# Altium schematic symbol library Integrated Circuits.SchLib: 59 symbols
Pins are listed as number, name and electrical type; pins without a type are passive.

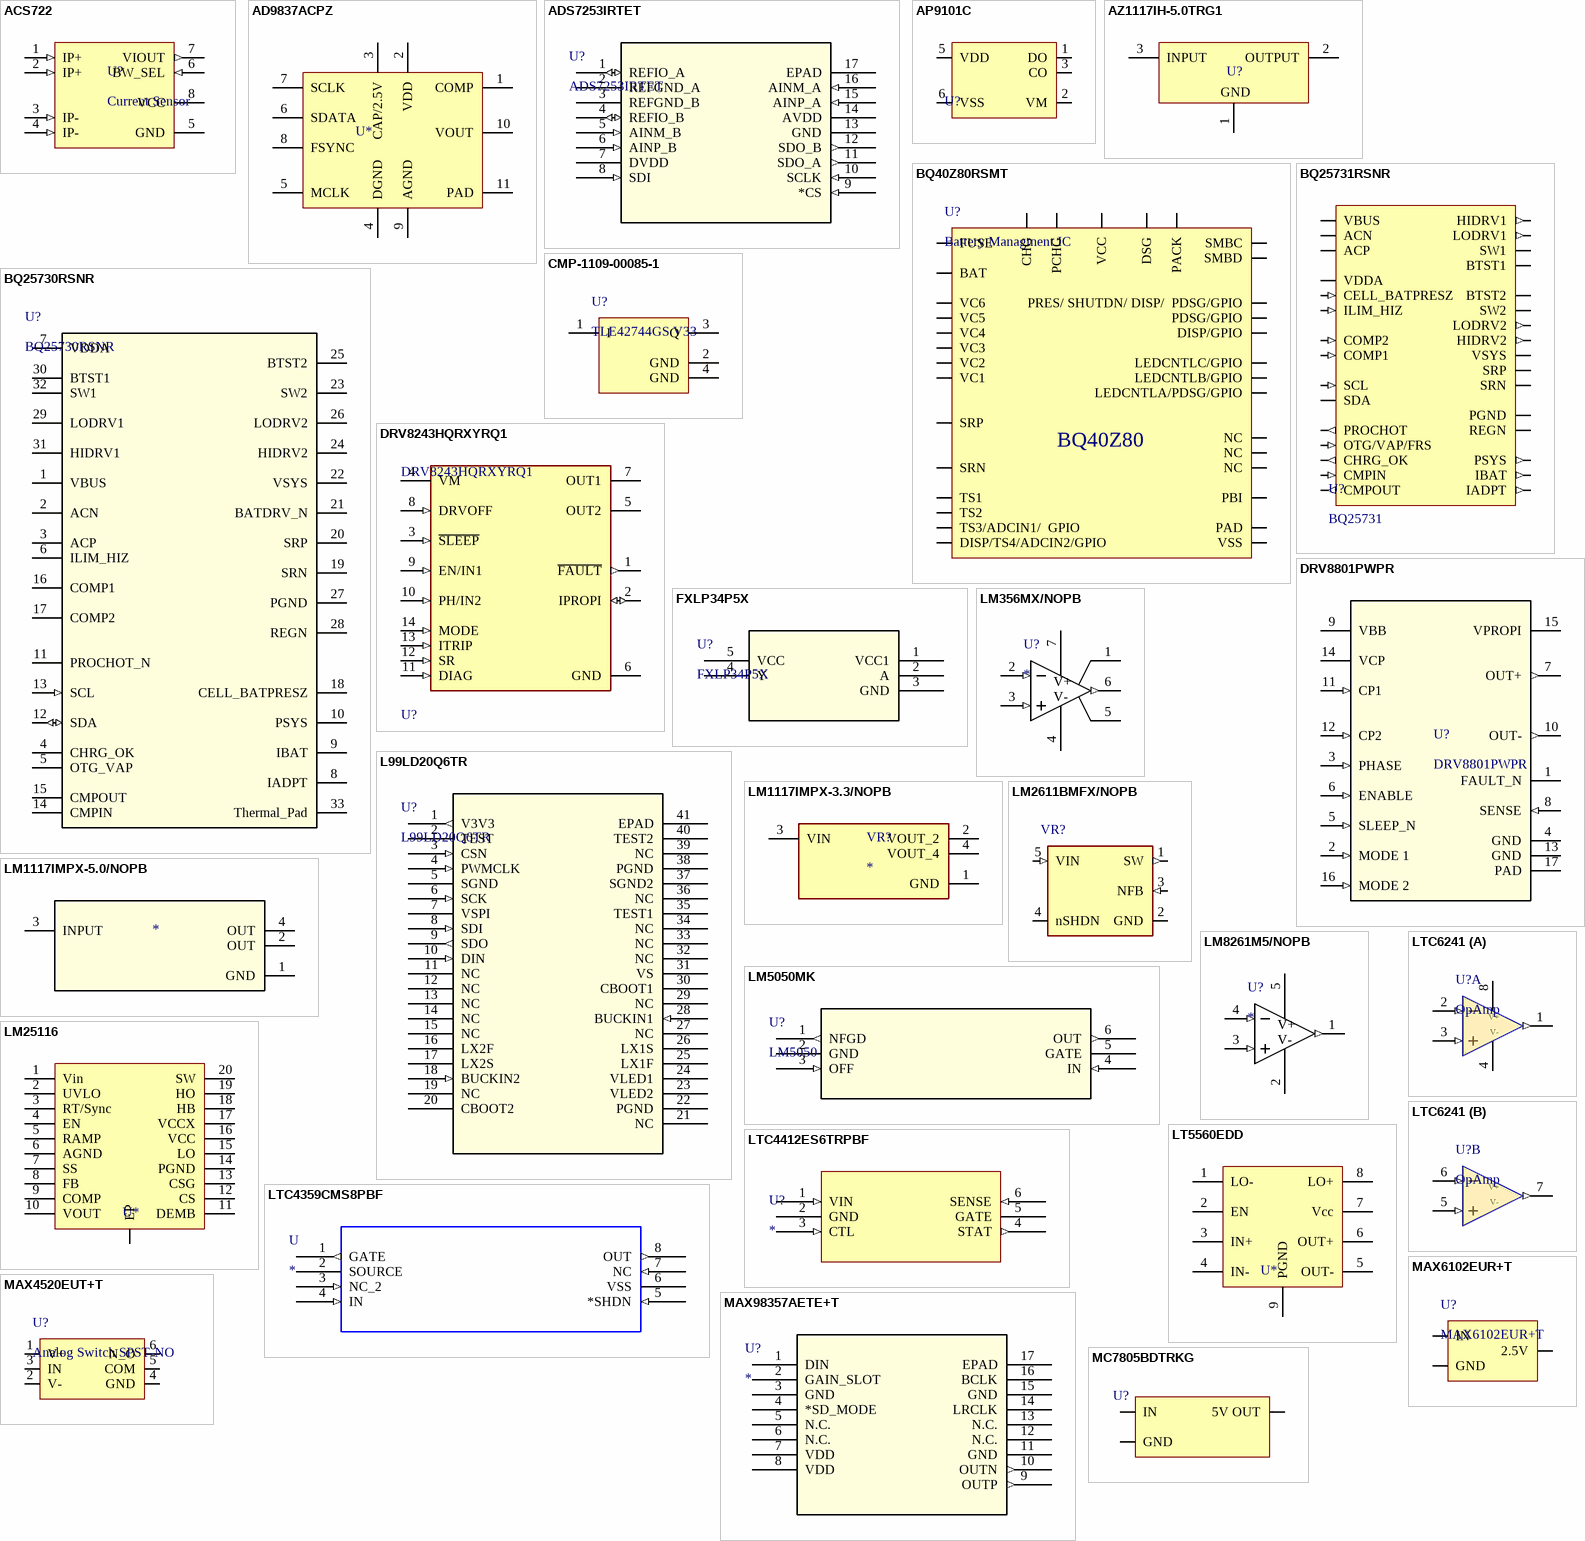
[diagram p0: symbols ACS722 to MC7805BDTRKG]

## ACS722
designator U?, comment Current Sensor
ACS722 10A DC; Manufacturer: Allegro MicroSystems; Supply Voltage: 3 - 3.6 V; ComponentLink1Description: Datasheet; ComponentLink1URL: https://www.allegromicro.com/~/media/Files/Datasheets/ACS722-Datasheet.ashx; Current Rating: 10 A; Supplier Part Number 1: 620-1636-6-ND; Supplier 1: Digi-Key; Created By: Nathan A; PartNumber: ACS722
footprint S8 (Linear Technologies S8)
pins: 1 IP+ (in), 2 IP+ (in), 3 IP- (in), 4 IP- (in), 5 GND, 6 BW_SEL (in), 7 VIOUT (out), 8 VCC
1 alternate drawing of the same symbol

## AD9837ACPZ
designator U*, comment IC DDS 5MHZ 10BIT 10LFCSP  (value not drawn)
Direct Digital Synthesis IC 10 b 5 MHz 28 b Tuning 10-LFCSP-WD (3x3)
footprint CP-10-9
pins: 1 COMP, 2 VDD, 3 CAP/2.5V, 4 DGND, 5 MCLK, 6 SDATA, 7 SCLK, 8 FSYNC, 9 AGND, 10 VOUT, 11 PAD

## ADS7253IRTET
designator U?
12 Bit, 1 MSPS, Dual, Simultaneous Sampling Single Ended / Pseudo-Differential SAR ADC 16-WQFN -40 to 125; Manufacturer: TI; Max Sampling: 1 MSpS; Supplier 1: DigiKey; Supplier Part Number 1: 296-38482-1-ND; Created By: John Ulm
footprint WQFN-16
pins: 1 REFIO_A (io), 2 REFGND_A (power), 3 REFGND_B (power), 4 REFIO_B (io), 5 AINM_B (in), 6 AINP_B (in), 7 DVDD (power), 8 SDI (in), 9 *CS (in), 10 SCLK (in), 11 SDO_A (out), 12 SDO_B (out), 13 GND (power), 14 AVDD (power), 15 AINP_A (in), 16 AINM_A (in), 17 EPAD

## AP9101C
designator U?, comment BATT PROT LI-ION 1CELL  (value not drawn)
Battery Battery Protection IC Lithium Ion/Polymer SOT-26; Made By: Robert Pafford; Supplier 1: Digi-Key; Supplier Part Number 1: AP9101CAK6-BVTRG1DICT-ND
footprint TSOT-23_S6
pins: 1 DO, 2 VM, 3 CO, 5 VDD, 6 VSS

## AZ1117IH-5.0TRG1
designator U?  (value not drawn)
Linear Voltage Regulator IC Positive Fixed 1 Output 1A SOT-223-3
footprint SOT223-3 (SOT223, 4-Leads, Body 6.50x7.00mm (avg), Pitch 2.30mm, IPC Medium Density)
pins: 1 GND, 2 OUTPUT, 3 INPUT

## BQ40Z80RSMT
designator U?, comment Battery Managment IC
Multifuntion Li-ion/ Lipo Battery Pack Managment IC; Manufacturer: Texas Instruments; PartNumber: BQ40Z80RSMT; No. Of Cells: 2S-6S; Supply Voltage: 2.2V - 32V; Quiescent Current: 50mA; ComponentLink1Description: Datasheet; ComponentLink1URL: https://www.ti.com/lit/ds/symlink/bq40z80.pdf?HQS=dis-dk-null-digikeymode-dsf-pf-null-wwe&ts=1672534896638&ref_url=https%253A%252F%252Fwww.ti.com%252Fgeneral%252Fdocs%252Fsuppproductinfo.tsp%253FdistId%253D10%2526gotoUrl%253Dhttps%253A%252F%252Fwww.ti.com%252Flit%252Fgpn%252Fbq40z80; Created By: Flip B; Supplier 1: Digi-Key; Supplier Part Number 1: 296-BQ40Z80RSMTCT-ND
footprint VQFN-32 (32 pin VQFN package, 4x4mm, 0.4mm pitch)
pins: 1 VC5, 2 VC4, 3 VC3, 4 VC2, 5 VC1, 6 SRN, 7 NC, 8 SRP, 9 VSS, 10 TS1, 11 TS2, 12 TS3/ADCIN1/  GPIO , 13 DISP/TS4/ADCIN2/GPIO, 14 NC, 15 DISP/GPIO, 16 PDSG/GPIO, 17 PRES/ SHUTDN/ DISP/  PDSG/GPIO, 18 SMBD, 19 SMBC, 20 LEDCNTLA/PDSG/GPIO, 21 LEDCNTLB/GPIO, 22 LEDCNTLC/GPIO, 23 FUSE, 24 VCC, 25 PACK, 26 DSG, 27 NC, 28 PCHG, 29 CHG, 30 BAT, 31 PBI, 32 VC6, 33 PAD
1 alternate drawing of the same symbol
text: BQ40Z80

## BQ25730RSNR
designator U?
I2C 1 TO 5 CELL, 2-V, NARROW VDC, Charger IC Multi-Chemistry 32-QFN (4x4); Mfr_Name: Texas Instruments; Type: DEV; RefDes: RefDes; Copyright: Copyright (C) 2024 Ultra Librarian. All rights reserved.; Manufacturer_Part_Number: BQ25730RSNR; Supplier 1: Mouser; Supplier Part Number 1: 595-BQ25730RSNR
footprint RSN0032B-IPC_B
pins: 1 VBUS (power), 2 ACN, 3 ACP, 4 CHRG_OK, 5 OTG_VAP, 6 ILIM_HIZ, 7 VDDA (power), 8 IADPT, 9 IBAT, 10 PSYS, 11 PROCHOT_N, 12 SDA (io), 13 SCL (in), 14 CMPIN, 15 CMPOUT, 16 COMP1, 17 COMP2, 18 CELL_BATPRESZ, 19 SRN, 20 SRP, 21 BATDRV_N, 22 VSYS, 23 SW2, 24 HIDRV2, 25 BTST2, 26 LODRV2, 27 PGND (power), 28 REGN, 29 LODRV1, 30 BTST1, 31 HIDRV1, 32 SW1, 33 Thermal_Pad

## BQ25731RSNR
designator U?, comment BQ25731
I2C 1-5 cell NVDC buck-boost battery charge controller with USB type-C PD support; Made By: Andrew Lin; Max Input Voltage: 26V; Max Charge Current: 10A; Max Number Cells: 5
footprint S-PWQFN-N32 (QFN, 32-Leads, Body 4.00x4.00mm, Pitch 0.40mm, Thermal Pad 2.80x2.80mm, IPC High Density)
pins: 1 VBUS (power), 2 ACN (power), 3 ACP (power), 4 CHRG_OK (out), 5 OTG/VAP/FRS (in), 6 ILIM_HIZ (in), 7 VDDA (power), 8 IADPT (out), 9 IBAT (out), 10 PSYS (out), 11 PROCHOT (out), 12 SDA (io), 13 SCL (in), 14 CMPIN (in), 15 CMPOUT (out), 16 COMP1 (in), 17 COMP2 (in), 18 CELL_BATPRESZ (in), 19 SRN (power), 20 SRP (power), 22 VSYS (power), 23 SW2 (power), 24 HIDRV2 (out), 25 BTST2 (power), 26 LODRV2 (out), 27 PGND (power), 28 REGN (power), 29 LODRV1 (out), 30 BTST1 (power), 31 HIDRV1 (out), 32 SW1 (power)

## CMP-1109-00085-1
designator U?, comment TLE42744GS V33
Low Drop Linear Voltage Regulator, 4.7 to 40 V Supply, 3.3 V Output, -40 to 150 degC, PG-SOT223 (SC-73), Reel, Green; Manufacturer: Infineon; Regulator Type: single output; Dropout Voltage: 250 mV; Green: TRUE; Max. Output Current: 400 mA; Typical Quiescent Current: 100 uA; Accuracy: 2 %; Output Voltage: 3.3 V; ComponentLink2URL: http://www.infineon.com/dgdl/TLE42744_DS_11.pdf?folderId=db3a304318f3fe290118f5a433570040&fileId=db3a304327b897500128012ccafe37d2&location=en.Products.Automotive_ICs.Linear_Voltage_Regulators_for_Automotive-Applications.Linear_Voltage_Regulators_-_Selectio; ComponentLink3URL: http://www.infineon.com/dgdl/SOT223-Package_Overview.pdf?folderId=db3a30431936bc4b0119530470b03c3d&fileId=db3a30431936bc4b0119531d40b93c5c; Operating Range: 4.7 to 40 V; PackageVersion: Apr-08; PartNumber: TLE42744GS V33; Packing: Reel; ComponentLink1URL: http://www.infineon.com/; ComponentLink2Description: Datasheet; DatasheetVersion: Rev. 1.1; ComponentLink3Description: Package Specification; PackageDescription: 4-Pin Small Outline Transistor Package, 6.5 x 3.5 mm Body, 2.3 mm Pitch; Mounting Technology: Surface Mount; PackageReference: PG-SOT223 (SC-73); ComponentLink1Description: Manufacturer URL
footprint INF-PG-SOT223_SC-73_N (SOT223, 4-Leads, Body 6.5x3.5mm, Pitch 2.3mm, IPC Medium Density)
pins: 1 I (power) "Input, block to ground directly at the IC with a ceramic capacitor", 2 GND (power) "Ground", 3 Q (power) "Output, block to ground with capacitor CQ>=10uF, ESR<=2.5 ohm", 4 GND (power) "Ground"

## DRV8243HQRXYRQ1
designator U?
Automotive 40-V, 12-A H-Bridge driver with integrated current sensing and feedback 14-VQFN-HR -40 to 125
footprint FP-RXY0014A-MFG
pins: 1 ~{FAULT} (out), 2 IPROPI (io), 3 ~{SLEEP} (in), 4 VM (power), 5 OUT2, 6 GND (power), 7 OUT1, 8 DRVOFF (in), 9 EN/IN1 (in), 10 PH/IN2 (in), 11 DIAG (in), 12 SR (in), 13 ITRIP (in), 14 MODE (in)

## DRV8801PWPR
designator U?
Bipolar Motor Driver DMOS Parallel 16-HTSSOP; Mfr_Name: Texas Instruments; CompType: IC; Type: DEV; RefDes: RefDes; Copyright: Copyright (C) 2022 Ultra Librarian. All rights reserved.; Manufacturer_Part_Number: DRV8801PWPR; PartNumber: DRV8801PWP; PackageReference: PWP0016B; MountType: SMT; RoHS: Y; Manufacturer: Texas Instruments; Supplier 1: Digi-Key; Supplier Part Number 1: 296-25378-1-ND
footprint PWP0016B
pins: 1 FAULT_N (oc), 2 MODE 1 (in), 3 PHASE (in), 4 GND (power), 5 SLEEP_N (in), 6 ENABLE (in), 7 OUT+ (out), 8 SENSE (in), 9 VBB (power), 10 OUT- (out), 11 CP1 (in), 12 CP2 (in), 13 GND (power), 14 VCP, 15 VPROPI (power), 16 MODE 2 (in), 17 PAD (power)

## FXLP34P5X
designator U?
Interface Circuit, CMOS, PDSO5; Made By: Ethan Rosati; Min Voltage: 1.0 V; Max Voltage: 3.6 V; Reviewed By: *; Supplier 1: Digikey; Supplier Part Number 1: FXLP34P5XCT-ND
footprint SOT-353
pins: 1 VCC1 (power), 2 A, 3 GND (power), 4 Y, 5 VCC (power)

## L99LD20Q6TR
designator U?
IC LED DRVR RGLTR PWM 1.5A 40QFN; Mfr_Name: STMicroelectronics; Copyright: Copyright (C) 2023 Ultra Librarian. All rights reserved.; Manufacturer_Part_Number: L99LD20Q6TR; RefDes: RefDes; Type: DEV; Supplier 1: Digi-Key; Supplier Part Number 1: 497-18126-1-ND
footprint L99LD20Q6TR (IC LED DRVR RGLTR PWM 1.5A 40QFN)
pins: 1 V3V3 (out), 2 TEST, 3 CSN (in), 4 PWMCLK (in), 5 SGND (power), 6 SCK (in), 7 VSPI, 8 SDI (in), 9 SDO (out), 10 DIN (in), 11 NC, 12 NC, 13 NC, 14 NC, 15 NC, 16 LX2F, 17 LX2S, 18 BUCKIN2 (in), 19 NC, 20 CBOOT2, 21 NC, 22 PGND (power), 23 VLED2, 24 VLED1, 25 LX1F, 26 LX1S, 27 NC, 28 BUCKIN1 (in), 29 NC, 30 CBOOT1, 31 VS, 32 NC, 33 NC, 34 NC, 35 TEST1, 36 NC, 37 SGND2 (power), 38 PGND (power), 39 NC, 40 TEST2, 41 EPAD (power)

## LM356MX/NOPB
designator U?
IC OPAMP JFET 1 CIRCUIT 8SOIC; PartNumber: LM8261M5X/NOPB; Manufacturer: Texas Instruments; Supply Current: 1.3 mA; Supply Voltage: 2.5 V ~ 30 V, +/- 1.25 V ~ 15 V; Gain Bandwidth Product: 21 MHz; Created By: Dylan T; ComponentLink1Description: Digi-Key; ComponentLink1URL: https://www.digikey.com/en/products/detail/texas-instruments/LF356MX-NOPB/366701
footprint SOIC-8 (SOIC, 8-Leads, Body 4.90x3.90mm, Pitch 1.27mm, IPC Medium Density)
pins: 1 Balance, 2 IN- (in), 3 IN+ (in), 4 V- (power), 5 Balance, 6 OUT (out), 7 V+ (power)

## LM1117IMPX-3.3/NOPB
designator VR?
800-mA 15-V linear voltage regulator 4-SOT-223 -40 to 125; MF: Texas Instruments; MP: LM1117IMPX-3.3/NOPB; Texas_Instruments-Purchase-URL: https://snapeda.com/shop?store=Texas+Instruments&id=410186; Price: None; Mouser-Purchase-URL: https://snapeda.com/shop?store=Mouser&id=410186; Value: *; Availability: Good; Package: SOT-223-4 Texas Instruments; Arrow_Electronics-Purchase-URL: https://snapeda.com/shop?store=Arrow+Electronics&id=410186; SnapEDA_Link: https://www.snapeda.com/parts/LM1117IMPX-3.3/NOPB/Texas%20Instruments/view-part/410186/?ref=snap; DigiKey-Purchase-URL: https://snapeda.com/shop?store=DigiKey&id=410186
footprint SOT-223-4
pins: 1 GND (power), 2 VOUT_2 (power), 3 VIN (power), 4 VOUT_4 (power)

## LM1117IMPX-5.0/NOPB
designator *  (value not drawn)
IC REG LINEAR 5V 800MA SOT223-4; Supplier 1: Mouser; Supplier Part Number 1: 926-LM1117IMPX50NOPB
footprint SOT-223-4
pins: 1 GND (power), 2 OUT (power), 3 INPUT (power), 4 OUT (power)

## LM2611BMFX/NOPB
designator VR?, comment LM2611 -5V Regulator  (value not drawn)
900-mA -5Vswitching voltage regulator 1.4MHz SOT23-5; Made By: Flip B; Input Voltage: 2.7V-14V; Output Voltage: -1.23V - -22V; Output Current: 900mA; Varified By: *; Switching Frequency: 1.4MHz; Supplier 1: Digi-Key; Supplier Part Number 1: 296-35161-1-ND
footprint SOT-23-5
pins: 1 SW (out), 2 GND (power), 3 NFB (in) "Negative Feedback", 4 nSHDN "Active Low Shutdown Pin", 5 VIN (in)

## LM5050MK
designator U?, comment LM5050
OR Controller N+1 ORing Controller N-Channel N:1 SOT-23-THIN; Mfr_Name: Texas Instruments; Manufacturer_Part_Number: LM5050MK-2/NOPB; Copyright: Copyright (C) 2021 Ultra Librarian. All rights reserved.; Digi-Key_Part_Number_1: LM5050MK-2/NOPBCT-ND; Digi-Key_Part_Number_2: LM5050MK-2/NOPBDKR-ND; Digi-Key_Part_Number_3: LM5050MK-2/NOPBTR-ND; RefDes: RefDes; Type: DEV
footprint MK06A
pins: 1 NFGD (out), 2 GND (power), 3 OFF (in), 4 IN (in), 5 GATE, 6 OUT (out)

## LM8261M5/NOPB
designator U?
IC OPAMP GP 1 CIRCUIT SOT23-5; PartNumber: LM8261M5X/NOPB; Manufacturer: Texas Instruments; Supply Current: 1.3 mA; Supply Voltage: 2.5 V ~ 30 V, +/- 1.25 V ~ 15 V; Gain Bandwidth Product: 21 MHz; Created By: Dylan T; Supplier 1: Digi-Key; Supplier Part Number 1: LM8261M5/NOPBCT-ND
footprint DBV0005A_N
pins: 1 OUT (out), 2 V- (power), 3 IN+ (in), 4 IN- (in), 5 V+ (power)

## LM25116
designator U*  (value not drawn)
IC REG CTRLR BUCK 20TSSOP
footprint LM25116 (IC REG CTRLR BUCK 20TSSOP)
pins: 1 Vin, 2 UVLO, 3 RT/Sync, 4 EN, 5 RAMP, 6 AGND, 7 SS, 8 FB, 9 COMP, 10 VOUT, 11 DEMB, 12 CS, 13 CSG, 14 PGND, 15 LO, 16 VCC, 17 VCCX, 18 HB, 19 HO, 20 SW, 21 EP

## LT5560EDD
designator U*  (value not drawn)
RF Mixer IC CATV, DBS, PHS, UHF, VHF Up/Down Converter 10kHz ~ 4GHz 8-DFN (3x3)
footprint LT5560EDD (SON, 8-Leads, Body 3.00x3.00mm, Pitch 0.50mm, Thermal Pad 2.38x1.53mm, IPC Medium Density (8-DFN EP))
pins: 1 LO-, 2 EN, 3 IN+, 4 IN-, 5 OUT-, 6 OUT+, 7 Vcc, 8 LO+, 9 PGND

## LTC4359CMS8PBF
designator U
IC OR CTRLR N+1 8MSOP,  IDEAL DIODE CONTROLLER; MF: Linear Technology; MP: LTC4359CMS8#PBF; Package: MSOP-8 Linear Technology; SnapEDA_Link: https://www.snapeda.com/parts/LTC4359CMS8%23PBF/Analog%20Devices/view-part/448959/?ref=snap; Mouser-Purchase-URL: https://snapeda.com/shop?store=Mouser&id=448959; DigiKey-Purchase-URL: https://snapeda.com/shop?store=DigiKey&id=448959; Price: None; Availability: Unavailable; Value: *
footprint MSOP-8_MS
pins: 1 GATE (out), 2 SOURCE, 3 NC_2 (in), 4 IN (in), 5 *SHDN (in), 6 VSS (power), 7 NC (in), 8 OUT (out)

## LTC4412ES6TRPBF
designator U?
OR Controller Source Selector Switch P-Channel 2:1 TSOT-23-6; MP: LTC4412ES6#TRPBF; MF: Analog Devices; Price: None; Availability: Good; Mouser-Purchase-URL: https://snapeda.com/shop?store=Mouser&id=4343773; Arrow_Europe-Purchase-URL: https://snapeda.com/shop?store=Arrow+Europe&id=4343773; DigiKey-Purchase-URL: https://snapeda.com/shop?store=DigiKey&id=4343773; Package: SOT-23-6 Analog Devices; SnapEDA_Link: https://www.snapeda.com/parts/LTC4412ES6%23TRPBF/Analog%20Devices/view-part/4343773/?ref=snap; Value: *; Check_prices: https://www.snapeda.com/parts/LTC4412ES6%23TRPBF/Analog%20Devices/view-part/4343773/?ref=eda
footprint TSOT-23_S6
pins: 1 VIN (in), 2 GND (power), 3 CTL (in), 4 STAT (out), 5 GATE, 6 SENSE (in)

## LTC6241
designator U?, comment OpAmp
LTC6241 Rail-to-Rail OpAmp Dual Circuit S8; PartNumber: LTC6241HVCS8; Manufacturer: Linear Technologies; Supply Current: 2.2mA per channel; Supply Voltage: 3V, 5V, +/-5V; Gain Bandwidth Product: 18 MHz; Slew Rate: 10V/uS; Created By: Flip B; ComponentLink1Description: Datasheet; ComponentLink1URL: https://www.analog.com/media/en/technical-documentation/data-sheets/624012fe.pdf; Supplier 1: Digi-Key; Supplier Part Number 1: LTC6241HVCS8#PBF-ND
footprint S8 (Linear Technologies S8)
part A pins: 1 OUT (out), 2 IN- (in), 3 IN+ (in), 4 V- (power), 8 V+ (power)
part B pins: 5 IN+ (in), 6 IN- (in), 7 OUT (out)
1 alternate drawing of the same symbol

## MAX4520EUT+T
designator U?, comment Analog Switch SPST-NO
Analog Switch SPST Normally Open; MF: Analog Devices; On resistance: 160Ohm; Voltage: 9-36V; Package: SOT-23-6 Analog Devices; Circuit: SPST; Created By: Flip B; ComponentLink1Description: Datasheet; ComponentLink1URL: https://www.analog.com/media/en/technical-documentation/data-sheets/max4510-max4520.pdf; Supplier 1: Digi-Key; Supplier Part Number 1: MAX4520EUT+TCT-ND
footprint TSOT-23_S6
pins: 1 V+, 2 V- (power), 3 IN, 4 GND, 5 COM, 6 N_O

## MAX6102EUR+T
designator U?
Series Voltage Reference IC Fixed 2.5V V ±0.4% 5 mA SOT-23-3; Supplier 1: DigiKey; Supplier Part Number 1: MAX6102EUR+TCT-ND
footprint SOT-23-3
pins: 1 IN, 2 2.5V, 3 GND

## MAX98357AETE+T
designator U?
Audio Amplifiers Digital Input Class D Amplifier; Mfr_Name: Analog Devices Inc; Made By: Andrew Lin; RefDes: RefDes; Supplier 1: Arrow Electronics; Supplier Part Number 1: MAX98357AETE+T
footprint TQFN-16 (L)
pins: 1 DIN, 2 GAIN_SLOT, 3 GND (power), 4 *SD_MODE, 5 N.C., 6 N.C., 7 VDD (power), 8 VDD (power), 9 OUTP (out), 10 OUTN (out), 11 GND (power), 12 N.C., 13 N.C., 14 LRCLK, 15 GND (power), 16 BCLK, 17 EPAD

## MC7805BDTRKG
designator U?  (value not drawn)
Linear Voltage Regulator IC Positive Fixed 1 Output 1A DPAK
footprint DPAK-2
pins: 1 IN, 2 GND, 3 5V OUT

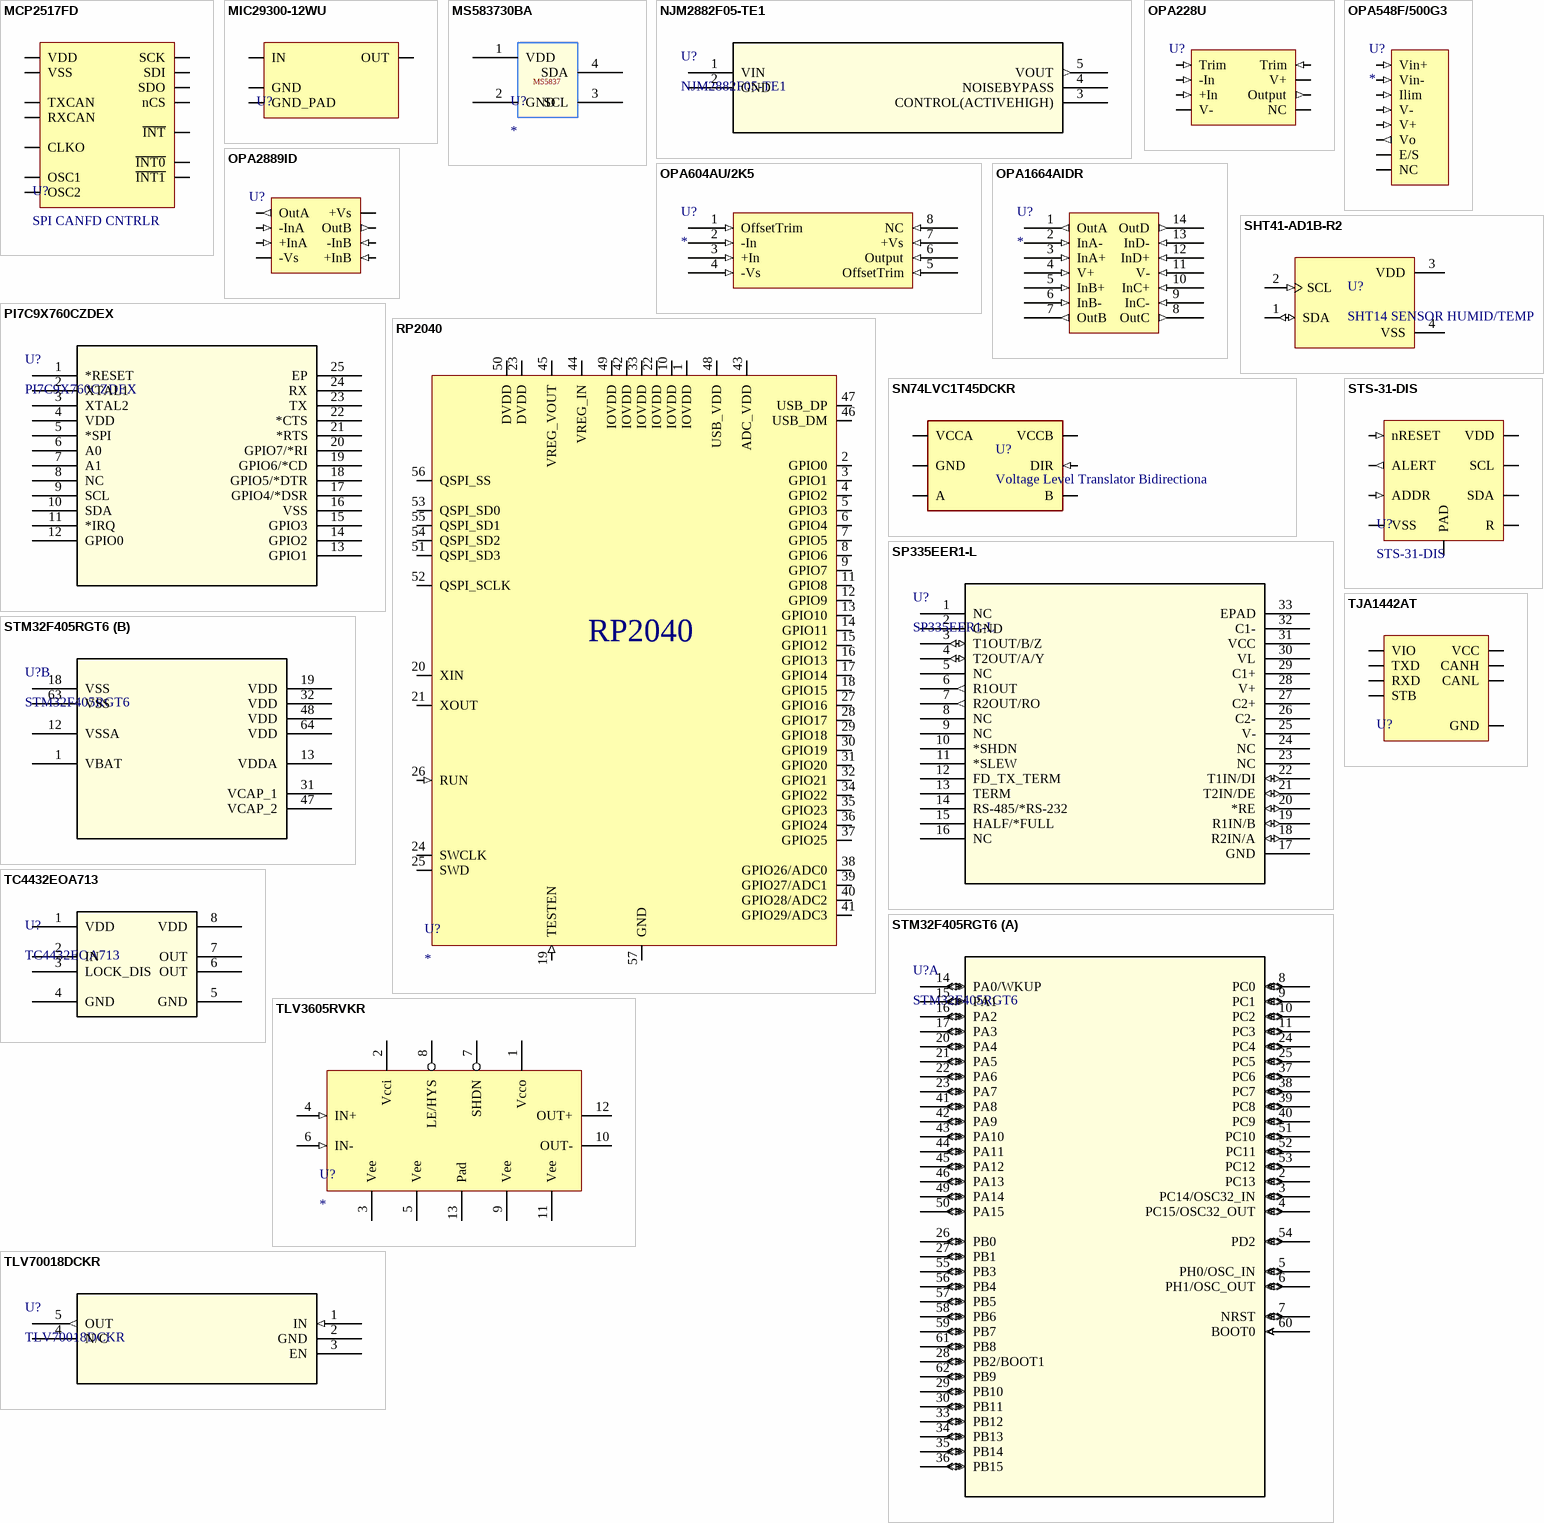
[diagram p1: symbols MCP2517FD to TLV70018DCKR]

## MCP2517FD
designator U?, comment SPI CANFD CNTRLR
CANbus Controller CAN 2.0 SPI Interface 14-SOIC; Made By: Robert Pafford; Max FD Rate: 8 Mbps
footprint SOIC-14 (SOIC, 14-Leads, Body 8.65x3.90mm, Pitch 1.27mm, IPC Medium Density)
pins: 1 TXCAN, 2 RXCAN, 3 CLKO, 4 ~{INT}, 5 OSC2, 6 OSC1, 7 VSS, 8 ~{INT1}, 9 ~{INT0}, 10 SCK, 11 SDI, 12 SDO, 13 nCS, 14 VDD

## MIC29300-12WU
designator U?, comment IC REG LINEAR 12V 3A TO263-3  (value not drawn)
Linear Voltage Regulator IC Positive Fixed 1 Output 3A TO-263-3; Made By: Robert Pafford; Max Input: 26V; Dropout: 0.6V @3A; Regulated Voltage: 12V; Max Current: 3A; Supplier 1: Digi-Key; Supplier Part Number 1: 576-2222-ND
footprint TO-263-3
pins: 1 IN, 2 GND, 3 OUT, 4 GND_PAD

## MS583730BA
designator U?
Made By: Sidd V; Supplier 1: Digi-Key; Supplier Part Number 1: 223-1704-1-ND
footprint MS5837-30BA (Footprint not found)
pins: 1 VDD, 2 GND, 3 SCL, 4 SDA
text: MS5837

## NJM2882F05-TE1
designator U?
5V LDO; Mfr_Name: New Japan Radio; Type: DEV; Copyright: Copyright (C) 2024 Ultra Librarian. All rights reserved.; Manufacturer_Part_Number: NJM2882F05-TE1; RefDes: RefDes
footprint SOT-23-5_JRC
pins: 1 VIN, 2 GND (power), 3 CONTROL(ACTIVEHIGH), 4 NOISEBYPASS, 5 VOUT (out)

## OPA228U
designator U?, comment IC OPAMP GP 1 CIRCUIT 8SOIC  (value not drawn)
General Purpose Amplifier 1 Circuit 8-SOIC
footprint SOIC-8 (SOIC, 8-Leads, Body 4.90x3.90mm, Pitch 1.27mm, IPC Medium Density)
pins: 1 Trim (in), 2 -In (in), 3 +In (in), 4 V- (power), 5 NC (io), 6 Output (out), 7 V+ (power), 8 Trim (in)

## OPA548F/500G3
designator U?
IC POWER 1 CIRCUIT DDPAK/TO263-7
footprint 7-PIN TO-263 (DDPAK-7, 8-Pads, Body 7.80x8.57mm (max), IPC Medium Density)
pins: 1 Vin+ (in), 2 Vin- (in), 3 Ilim (in), 4 V- (in), 5 V+ (in), 6 Vo (out), 7 E/S (io), 8 NC (hiz)

## OPA604AU/2K5
designator U?
footprint SOIC-8 (SOIC, 8-Leads, Body 4.90x3.90mm, Pitch 1.27mm, IPC Medium Density)
pins: 1 OffsetTrim (in), 2 -In (in), 3 +In (in), 4 -Vs (in), 5 OffsetTrim (in), 6 Output (in), 7 +Vs (in), 8 NC (in)

## OPA1664AIDR
designator U?
IC OPAMP AUDIO 4 CIRCUIT 14SOIC
footprint SOIC-14 (SOIC, 14-Leads, Body 8.65x3.90mm, Pitch 1.27mm, IPC Medium Density)
pins: 1 OutA (out), 2 InA- (in), 3 InA+ (in), 4 V+ (in), 5 InB+ (in), 6 InB- (in), 7 OutB (out), 8 OutC (out), 9 InC- (in), 10 InC+ (in), 11 V- (in), 12 InD+ (in), 13 InD- (in), 14 OutD (out)

## OPA2889ID
designator U?, comment IC VOLTAGE FEEDBACK 2 CIRC 8SOIC  (value not drawn)
Voltage Feedback Amplifier 2 Circuit 8-SOIC
footprint SOIC-8 (SOIC, 8-Leads, Body 4.90x3.90mm, Pitch 1.27mm, IPC Medium Density)
pins: 1 OutA (out), 2 -InA (in), 3 +InA (in), 4 -Vs (power), 5 +InB (in), 6 -InB (in), 7 OutB (out), 8 +Vs (power)

## PI7C9X760CZDEX
designator U?
I2C Bridge, I2C/SPI to UART UART Interface 24-TQFN (4x4)
footprint TQFN-24
pins: 1 *RESET, 2 XTAL1, 3 XTAL2, 4 VDD, 5 *SPI, 6 A0, 7 A1, 8 NC, 9 SCL, 10 SDA, 11 *IRQ, 12 GPIO0, 13 GPIO1, 14 GPIO2, 15 GPIO3, 16 VSS, 17 GPIO4/*DSR, 18 GPIO5/*DTR, 19 GPIO6/*CD, 20 GPIO7/*RI, 21 *RTS, 22 *CTS, 23 TX, 24 RX, 25 EP

## RP2040
designator U?
Raspberry Pi RP2040; Made By: Robert Pafford; Input Voltage: 3.3V; Crystal Frequency: 12 MHz; Number of GPIOs: 29; Available Busses: SPI, I2C, PWM, USB; ComponentLink1Description: DigiKey; ComponentLink1URL: *; ComponentLink2Description: Datasheet; ComponentLink2URL: https://datasheets.raspberrypi.org/rp2040/rp2040-datasheet.pdf
footprint QFN-56 RP2040 (QFN, 56-Leads, Body 7.00x7.00mm, Pitch 0.40mm, Thermal Pad 3.10x3.10mm, IPC Medium Density)
pins: 1 IOVDD (power), 2 GPIO0 (io) "GPIO2", 3 GPIO1 (io), 4 GPIO2 (io), 5 GPIO3 (io), 6 GPIO4 (io), 7 GPIO5 (io), 8 GPIO6 (io), 9 GPIO7 (io), 10 IOVDD (power), 11 GPIO8 (io), 12 GPIO9 (io), 13 GPIO10 (io), 14 GPIO11 (io), 15 GPIO12 (io), 16 GPIO13 (io), 17 GPIO14 (io), 18 GPIO15 (io), 19 TESTEN (in), 20 XIN, 21 XOUT, 22 IOVDD (power), 23 DVDD (power), 24 SWCLK (io), 25 SWD (io), 26 RUN (in), 27 GPIO16 (io), 28 GPIO17 (io), 29 GPIO18 (io), 30 GPIO19 (io), 31 GPIO20 (io), 32 GPIO21 (io), 33 IOVDD (power), 34 GPIO22 (io), 35 GPIO23 (io), 36 GPIO24 (io), 37 GPIO25 (io), 38 GPIO26/ADC0 (io), 39 GPIO27/ADC1 (io), 40 GPIO28/ADC2 (io), 41 GPIO29/ADC3 (io), 42 IOVDD (power), 43 ADC_VDD (power), 44 VREG_IN (power), 45 VREG_VOUT (power), 46 USB_DM (io), 47 USB_DP (io), 48 USB_VDD (power), 49 IOVDD (power), 50 DVDD (power), 51 QSPI_SD3 (io), 52 QSPI_SCLK (io), 53 QSPI_SD0 (io), 54 QSPI_SD2 (io), 55 QSPI_SD1 (io), 56 QSPI_SS (io), 57 GND (power)

## SHT41-AD1B-R2
designator U?, comment SHT14 SENSOR HUMID/TEMP
Digital Relative Humidity Temperature Sensor, Â±1.8 / max 2.5 %RH, Â±0.2 Â°C, Ultra-Low-Power; MP: SHT41-AD1B-R2; MF: Sensirion; Price: None; SnapEDA_Link: https://www.snapeda.com/parts/SHT41-AD1B-R2/Sensirion/view-part/?ref=snap; Purchase-URL: https://pricing.snapeda.com/search/part/SHT41-AD1B-R2/?ref=eda; Value: *; Availability: In Stock; Package: None; Check_prices: https://www.snapeda.com/parts/SHT41-AD1B-R2/Sensirion/view-part/?ref=eda; Supplier 1: Digi-Key; Supplier Part Number 1: 1649-SHT41-AD1B-R2CT-ND
footprint XDCR_SHT41-AD1B-R2 (Sensirion AG SHT14 Sensor Humidity/Temp)
pins: 1 SDA (io), 2 SCL (in), 3 VDD (power), 4 VSS (power)

## SN74LVC1T45DCKR
designator U?, comment Voltage Level Translator Bidirectiona
Voltage Level Translator Bidirectional 1 Circuit 1 Channel 420Mbps SC-70-6; Channels: 1; Supplier 1: Digi-Key; Supplier Part Number 1: 296-16844-6-ND; Created by: John Ulm; Max Rate: 420Mbps; Channel Type: Bidirectional; Voltage Range: *
pins: 1 VCCA (power), 2 A (io), 4 GND (power), 5 DIR (in), 7 B (io), 8 VCCB (power)

## SP335EER1-L
designator U?
1/1, 2/2 Transceiver Full RS232, RS422, RS485 32-QFN (5x5); Supply Voltage: 3V - 5.5V; Created By: Ethan Rosati; Reviewed By: *; Supplier 1: Digikey; Supplier Part Number 1: 1016-1969-ND
footprint QFN-32
pins: 1 NC, 2 GND (power), 3 T1OUT/B/Z (io), 4 T2OUT/A/Y (io), 5 NC, 6 R1OUT (out), 7 R2OUT/RO (out), 8 NC, 9 NC, 10 *SHDN, 11 *SLEW, 12 FD_TX_TERM, 13 TERM, 14 RS-485/*RS-232, 15 HALF/*FULL, 16 NC, 17 GND (power), 18 R2IN/A (io), 19 R1IN/B (io), 20 *RE (io), 21 T2IN/DE (io), 22 T1IN/DI (io), 23 NC, 24 NC, 25 V- (power), 26 C2-, 27 C2+, 28 V+ (power), 29 C1+, 30 VL (power), 31 VCC (power), 32 C1-, 33 EPAD

## STM32F405RGT6
designator U?
No Description Available; Vendor: STMicroelectronics; Vcc/Vdd: 1.8V ~ 3.6V; Speed: 168MHz; Manufacturer_Part_Number: STM32F405RGT6; Package: 64-LQFP (10x10); Supplier 1: Digi-Key; Supplier Part Number 1: 497-11767-ND; Created By: Dylan T
footprint LQFP64-10x10mm
part A pins: 2 PC13 (io), 3 PC14/OSC32_IN (io), 4 PC15/OSC32_OUT (io), 5 PH0/OSC_IN (io), 6 PH1/OSC_OUT (io), 7 NRST (io), 8 PC0 (io), 9 PC1 (io), 10 PC2 (io), 11 PC3 (io), 14 PA0/WKUP (io), 15 PA1 (io), 16 PA2 (io), 17 PA3 (io), 20 PA4 (io), 21 PA5 (io), 22 PA6 (io), 23 PA7 (io), 24 PC4 (io), 25 PC5 (io), 26 PB0 (io), 27 PB1 (io), 28 PB2/BOOT1 (io), 29 PB10 (io), 30 PB11 (io), 33 PB12 (io), 34 PB13 (io), 35 PB14 (io), 36 PB15 (io), 37 PC6 (io), 38 PC7 (io), 39 PC8 (io), 40 PC9 (io), 41 PA8 (io), 42 PA9 (io), 43 PA10 (io), 44 PA11 (io), 45 PA12 (io), 46 PA13 (io), 49 PA14 (io), 50 PA15 (io), 51 PC10 (io), 52 PC11 (io), 53 PC12 (io), 54 PD2 (io), 55 PB3 (io), 56 PB4 (io), 57 PB5 (io), 58 PB6 (io), 59 PB7 (io), 60 BOOT0 (in), 61 PB8 (io), 62 PB9 (io)
part B pins: 1 VBAT (power), 12 VSSA (power), 13 VDDA (power), 18 VSS (power), 19 VDD (power), 31 VCAP_1 (power), 32 VDD (power), 47 VCAP_2 (power), 48 VDD (power), 63 VSS (power), 64 VDD (power)

## STS-31-DIS
designator U?
Temperature Sensor Digital, Local 0°C ~ 90°C 16 b 8-TDFN (2.5x2.5); Accuracy: ±0.2°C; Operating Range: -40°C ~ 125°C; Interface: I2C; Resolution: 16b; Operating Voltage: 2.15V ~ 5.5V; Made By: Robert Pafford; Supplier 1: Digi-Key; Supplier Part Number 1: 1649-1064-1-ND; Accuracy Range: 0°C ~ 90°C
footprint 8-TDFN (8 Pin DFN Package (2.5x2.5))
pins: 1 SDA, 2 ADDR (in), 3 ALERT (out), 4 SCL, 5 VDD (power), 6 nRESET (in), 7 R, 8 VSS (power), 9 PAD (power)

## TC4432EOA713
designator U?
High-Side or Low-Side Gate Driver IC Non-Inverting 8-SOIC; Mfr_Name: Microchip; Copyright: Copyright (C) 2024 Ultra Librarian. All rights reserved.; Manufacturer_Part_Number: TC4432EOA713; RefDes: RefDes; Type: DEV
footprint SOIC8-N_MC_MCH
pins: 1 VDD, 2 IN, 3 LOCK_DIS, 4 GND, 5 GND, 6 OUT, 7 OUT, 8 VDD

## TJA1442AT
designator U?, comment CAN Transceiver  (value not drawn)
CAN Interface IC High-Speed CAN Transceiver with Standby Mode; Made By: Robert Pafford; Max Data Rate: 5Mbps; Supplier 1: Mouser; Supplier Part Number 1: 771-TJA1442AT/0Z
footprint SOIC-8 (SOIC, 8-Leads, Body 4.90x3.90mm, Pitch 1.27mm, IPC Medium Density)
pins: 1 TXD, 2 GND, 3 VCC, 4 RXD, 5 VIO, 6 CANL, 7 CANH, 8 STB

## TLV3605RVKR
designator U?
IC COMPARATOR 1 GEN PUR 12WQFN; PartNumber: TLV3605RVKR; Manufacturer: Texas Instruments; Supply Voltage: 2.4V ~ 5.5V; Created By: Nathan Ayer; ComponentLink1Description: Digi-Key; ComponentLink1URL: https://www.digikey.com/en/products/detail/texas-instruments/TLV3605RVKR/14123952
footprint TLV3605RVKR (QFN, 12-Leads, Body 3.00x3.00mm, Pitch 0.50mm, Thermal Pad 1.86x1.86mm, IPC Medium Density)
pins: 1 Vcco (power), 2 Vcci (power), 3 Vee (power), 4 IN+ (in), 5 Vee (power), 6 IN- (in), 7 SHDN, 8 LE/HYS, 9 Vee (power), 10 OUT-, 11 Vee (power), 12 OUT+, 13 Pad (power)

## TLV70018DCKR
designator U?
Fixed Positive LDO Regulator, 1.8V, PMOS, PDSO5; Made By: Ethan Rosati; Max Voltage: 5.5 V; Min Voltage: 2 V; Output Current: 200 mA; Reviewed By: *; Output Voltage: 1.8 V; Supplier 1: Mouser; Supplier Part Number 1: 595-TLV70018DCKR
footprint SOT-353
pins: 1 IN (in), 2 GND, 3 EN, 4 N/C (power), 5 OUT (out)

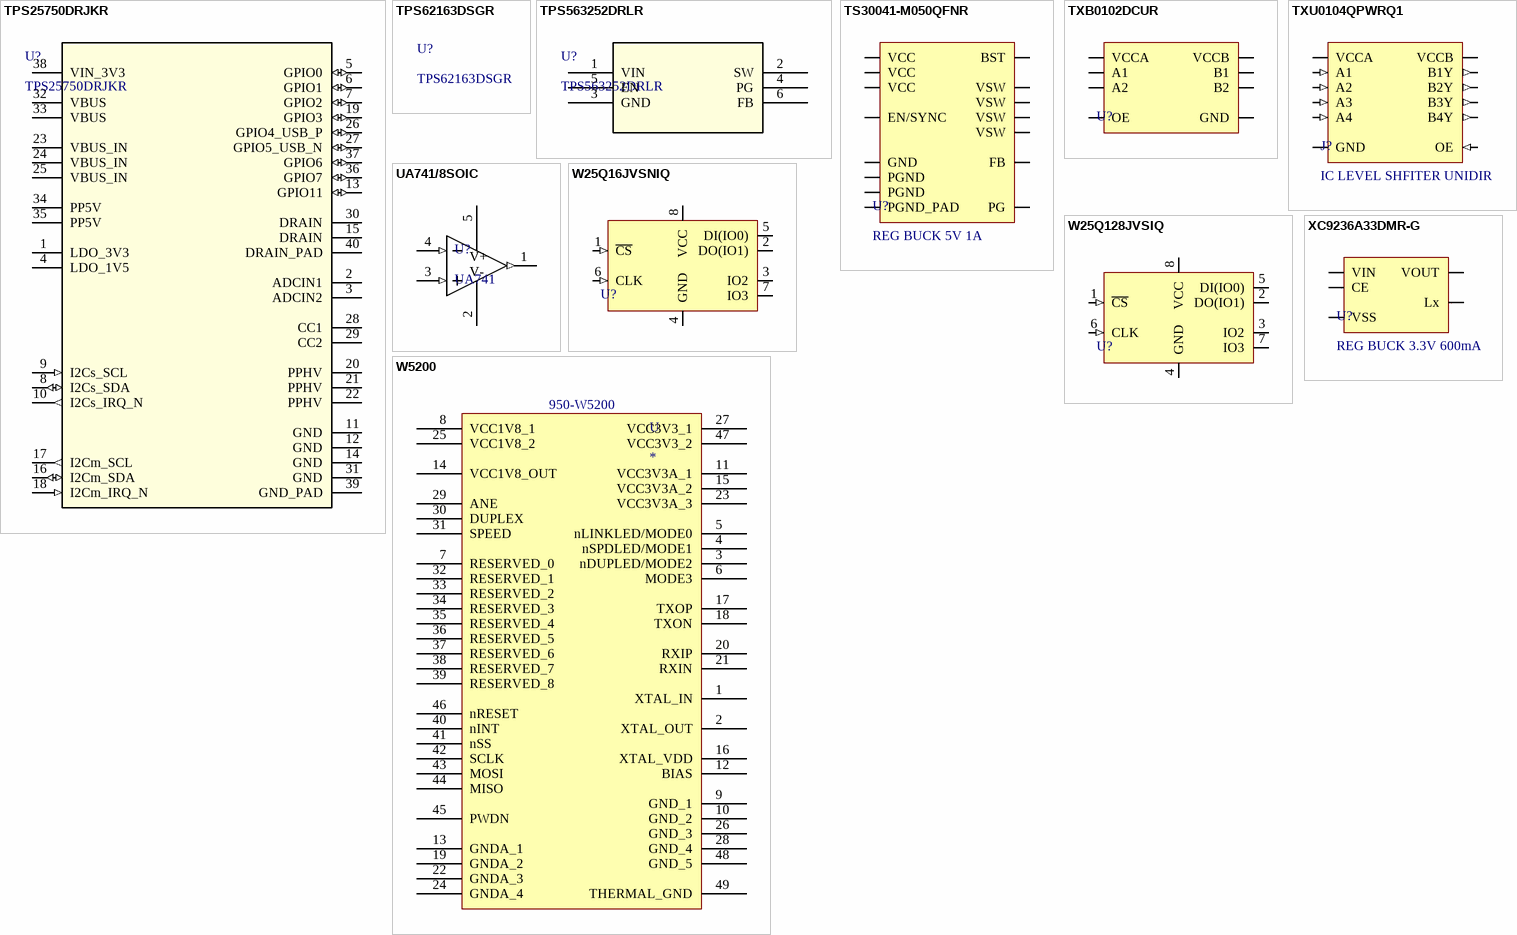
[diagram p2: symbols TPS25750DRJKR to XC9236A33DMR-G]

## TPS25750DRJKR
designator U?
USB, Type-C Controller PMIC 38-WQFN (4x6); Mfr_Name: Texas Instruments; Made By: Andrew Lin; Type: DEV; RefDes: RefDes; Copyright: Copyright (C) 2023 Ultra Librarian. All rights reserved.; Manufacturer_Part_Number: TPS25750DRJKR
footprint 38-WQFN (4x6) (TPS25750DRJKR)
pins: 1 LDO_3V3, 2 ADCIN1, 3 ADCIN2, 4 LDO_1V5, 5 GPIO0 (io), 6 GPIO1 (io), 7 GPIO2 (io), 8 I2Cs_SDA (io), 9 I2Cs_SCL (in), 10 I2Cs_IRQ_N (out), 11 GND (power), 12 GND (power), 13 GPIO11 (io), 14 GND (power), 15 DRAIN, 16 I2Cm_SDA (io), 17 I2Cm_SCL (out), 18 I2Cm_IRQ_N (in), 19 GPIO3 (io), 20 PPHV, 21 PPHV, 22 PPHV, 23 VBUS_IN (power), 24 VBUS_IN (power), 25 VBUS_IN (power), 26 GPIO4_USB_P (io), 27 GPIO5_USB_N (io), 28 CC1, 29 CC2, 30 DRAIN, 31 GND (power), 32 VBUS (power), 33 VBUS (power), 34 PP5V (power), 35 PP5V (power), 36 GPIO7 (io), 37 GPIO6 (io), 38 VIN_3V3 (power), 39 GND_PAD (power), 40 DRAIN_PAD

## TPS62163DSGR
designator U?
Buck Switching Regulator IC Positive Fixed 5V 1 Output 1A 8-WFDFN Exposed Pad

## TPS563252DRLR
designator U?
Buck Switching Regulator IC Positive Adjustable 0.6V 1 Output 3A SOT-563, SOT-666; Supplier 1: DigiKey; Supplier Part Number 1: 296-TPS563252DRLRCT-ND
pins: 1 VIN (power), 2 SW (power), 3 GND (power), 4 PG, 5 EN, 6 FB

## TS30041-M050QFNR
designator U?, comment REG BUCK 5V 1A
Buck Switching Regulator IC Positive Fixed 5V 1 Output 1A 16-VFQFN Exposed Pad; Made By: Robert Pafford; Output Voltage: 5V (Fixed); Max Input Voltage: 40V; Max Current: 1A; Supplier 1: Digi-Key; Supplier Part Number 1: TS30041-M050QFNRCT-ND
footprint QFN-16 (3x3) (QFN, 16-Leads, Body 3.00x3.00mm, Pitch 0.50mm, Thermal Pad 1.68x1.68mm, IPC Medium Density)
pins: 1 VSW (power), 2 VCC (power), 3 VCC (power), 4 GND (power), 5 FB, 8 PG, 9 EN/SYNC, 10 BST, 11 VCC (power), 12 VSW (power), 13 VSW (power), 14 PGND (power), 15 PGND (power), 16 VSW, 17 PGND_PAD (power)

## TXB0102DCUR
designator U?, comment IC TRANSLTR BIDIRECTIONAL 8VSSOP  (value not drawn)
Voltage Level Translator Bidirectional 1 Circuit 2 Channel 20Mbps 8-MSOP; Made By: Zach Ramsey; Channels: 2; Voltage Range (VCCA): 1.2 V ~ 3.6 V; Max Rate: 100 Mbps; Voltage Range (VCCB): 1.65 V ~ 5.5 V; Channel Type: Bidirectional; Supplier 1: Digi-Key; Supplier Part Number 1: TXB0102DCUR
footprint TXB0102DCUR (IC TRANSLTR BIDIRECTIONAL 8VSSOP)
pins: 1 VCCA (power), 2 A1 (io), 3 A2 (io), 4 OE (oe), 5 GND (power), 6 B2 (io), 7 B1 (io), 8 VCCB (power)

## TXU0104QPWRQ1
designator J?, comment IC LEVEL SHFITER UNIDIR
Voltage Level Translator Unidirectional 1 Circuit 4 Channel 200Mbps 14-TSSOP; Made By: Robert Pafford; Voltage Range: 1.1~5.5V; Channels: 4; Channel Type: Unidirectional; Max Rate: 200Mbps; Supplier 1: Digi-Key; Supplier Part Number 1: 296-TXU0104QPWRQ1CT-ND
footprint PW (R-PDSO-G14) (TI 14-TSSOP Package)
pins: 1 VCCA (power), 2 A1 (in), 3 A2 (in), 4 A3 (in), 5 A4 (in), 7 GND (power), 8 OE (in), 10 B4Y (out), 11 B3Y (out), 12 B2Y (out), 13 B1Y (out), 14 VCCB (power)

## UA741/8SOIC
designator U?, comment UA741
IC OPAMP GP 1 CIRCUIT 8SOIC
footprint SOIC-8 W25QxJV (SOIC, 8-Leads, Body 5.28x5.28mm, Pitch 1.27mm, IPC Medium Density)
simulation model uA741 (Model Description)
pins: 1 OUT (out), 2 V- (power), 3 IN+ (in), 4 IN- (in), 5 V+ (power)

## W25Q16JVSNIQ
designator U?  (value not drawn)
IC FLASH 16MBIT SPI/QUAD 8SOIC; Made By: John S; Size: 16M; Supplier 1: Digi-Key; Supplier Part Number 1: W25Q16JVSNIQCT-ND
footprint SOIC-8 W25QxJV (SOIC, 8-Leads, Body 5.28x5.28mm, Pitch 1.27mm, IPC Medium Density)
pins: 1 ~{CS} (in), 2 DO(IO1) (io), 3 IO2 (io), 4 GND (power), 5 DI(IO0) (io), 6 CLK (in), 7 IO3 (io), 8 VCC (power)

## W25Q128JVSIQ
designator U?  (value not drawn)
IC FLASH 128MBIT SPI/QUAD 8SOIC; Made By: Robert Pafford; Supplier 1: Digi-Key; Supplier Part Number 1: W25Q128JVSIQ-ND; Size: 128M
footprint SOIC-8 W25QxJV (SOIC, 8-Leads, Body 5.28x5.28mm, Pitch 1.27mm, IPC Medium Density)
pins: 1 ~{CS} (in), 2 DO(IO1) (io), 3 IO2 (io), 4 GND (power), 5 DI(IO0) (io), 6 CLK (in), 7 IO3 (io), 8 VCC (power)

## W5200
designator U  Supplier Part Number 1: 950-W5200
WIZNET W5200 / 48QFN (7x7 mm); MF: Texas Instruments; MP: LM1117IMPX-3.3/NOPB; Created by:: Siddharth.V; Texas_Instruments-Purchase-URL: https://snapeda.com/shop?store=Texas+Instruments&id=410186; Price: None; Mouser-Purchase-URL: https://snapeda.com/shop?store=Mouser&id=410186; Value: *; Availability: Good; Package: SOT-223-4 Texas Instruments; Arrow_Electronics-Purchase-URL: https://snapeda.com/shop?store=Arrow+Electronics&id=410186; SnapEDA_Link: https://www.snapeda.com/parts/LM1117IMPX-3.3/NOPB/Texas%20Instruments/view-part/410186/?ref=snap; DigiKey-Purchase-URL: https://snapeda.com/shop?store=DigiKey&id=410186; ComponentLink1Description: Datasheet; ComponentLink1URL: https://www.wiznet.io/product-item/w5200/; Supplier 1: Mouser
footprint QFN-48 (48 pin QFN package, 7x7mm, 0.5mm pitch)
pins: 1 XTAL_IN, 2 XTAL_OUT, 3 nDUPLED/MODE2, 4 nSPDLED/MODE1, 5 nLINKLED/MODE0, 6 MODE3, 7 RESERVED_0, 8 VCC1V8_1, 9 GND_1, 10 GND_2, 11 VCC3V3A_1, 12 BIAS, 13 GNDA_1, 14 VCC1V8_OUT, 15 VCC3V3A_2, 16 XTAL_VDD, 17 TXOP, 18 TXON, 19 GNDA_2, 20 RXIP, 21 RXIN, 22 GNDA_3, 23 VCC3V3A_3, 24 GNDA_4, 25 VCC1V8_2, 26 GND_3, 27 VCC3V3_1, 28 GND_4, 29 ANE, 30 DUPLEX, 31 SPEED, 32 RESERVED_1, 33 RESERVED_2, 34 RESERVED_3, 35 RESERVED_4, 36 RESERVED_5, 37 RESERVED_6, 38 RESERVED_7, 39 RESERVED_8, 40 nINT, 41 nSS, 42 SCLK, 43 MOSI, 44 MISO, 45 PWDN, 46 nRESET, 47 VCC3V3_2, 48 GND_5, 49 THERMAL_GND

## XC9236A33DMR-G
designator U?, comment REG BUCK 3.3V 600mA
Buck Switching Regulator IC Positive Fixed 3.3V 1 Output 600mA SOT25; Made By: Robert Pafford; Output Voltage: 3.3V (Fixed); Max Input Voltage: 6V; Max Current: 600 mA; Supplier 1: Digi-Key; Supplier Part Number 1: 893-1162-1-ND
footprint SOT-23-5
pins: 1 VIN, 2 VSS, 3 CE, 4 VOUT, 5 Lx